# Altium footprint library LMZ36002RVQT.PcbLib: 1 footprints
Each footprint in its own frame and in the unit in brackets; x right, y up, seen from the top. Pads: shape width x height; smd on the part's side, far side on the other; paste and mask are expansions set on the pad; w line width, h text height; cw(c..) or ccw(c..) is an arc to the next point about the centre after c.
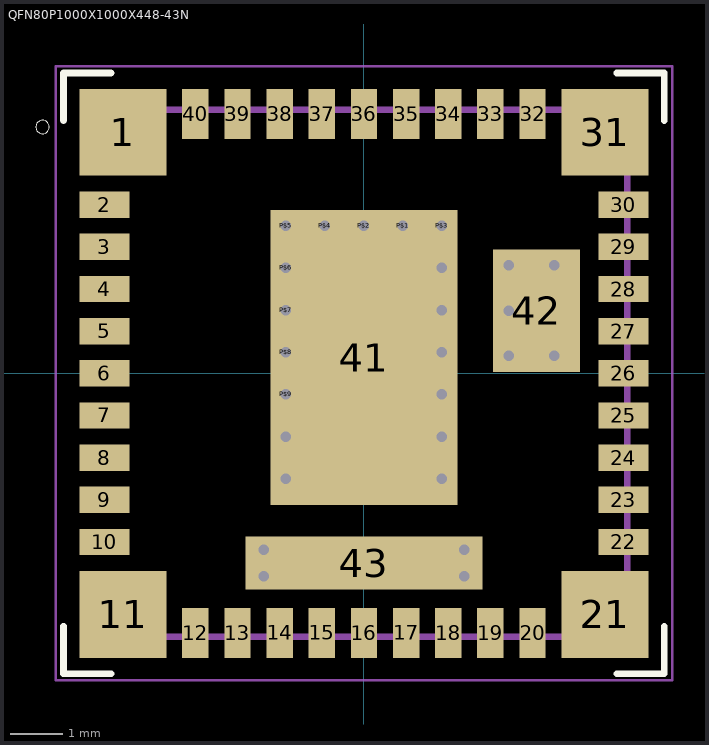
[diagram p0: the footprint, top view; thin cyan lines are the x and y axes]

## QFN80P1000X1000X448-43N [mm]
pads (69):
  rect 1.65x1.65 smd: 1(-4.575,4.575) 11(-4.575,-4.575) 21(4.575,-4.575) 31(4.575,4.575)
  rect 0.95x0.5 smd: 2(-4.925,3.2) 3(-4.925,2.4) 4(-4.925,1.6) 5(-4.925,0.8) 6(-4.925,0) 7(-4.925,-0.8) 8(-4.925,-1.6) 9(-4.925,-2.4) 10(-4.925,-3.2) 22(4.925,-3.2) 23(4.925,-2.4) 24(4.925,-1.6) 25(4.925,-0.8) 26(4.925,0) 27(4.925,0.8) 28(4.925,1.6) 29(4.925,2.4) 30(4.925,3.2)
  rect 0.5x0.95 smd: 12(-3.2,-4.925) 13(-2.4,-4.925) 14(-1.6,-4.925) 15(-0.8,-4.925) 16(0,-4.925) 17(0.8,-4.925) 18(1.6,-4.925) 19(2.4,-4.925) 20(3.2,-4.925) 32(3.2,4.925) 33(2.4,4.925) 34(1.6,4.925) 35(0.8,4.925) 36(0,4.925) 37(-0.8,4.925) 38(-1.6,4.925) 39(-2.4,4.925) 40(-3.2,4.925)
  rect 3.55x5.6 smd paste-4 mask+0: 41(0,0.3)
  rect 1.65x2.32 smd paste-2 mask+0: 42(3.275,1.187)
  rect 4.5x1 smd paste-3 mask+0: 43(0,-3.6)
  round 0.3 hole 0.2 mask+0: P$1(0.74,2.8) P$2(0,2.8) P$3(1.48,2.8) P$4(-0.74,2.8) P$5(-1.48,2.8) P$6(-1.48,2) P$7(-1.48,1.2) P$8(-1.48,0.4) P$9(-1.48,-0.4) P$10(-1.48,-1.2) P$11(-1.48,-2) P$12(1.48,2) P$13(1.48,1.2) P$14(1.48,0.4) P$15(1.48,-0.4) P$16(1.48,-1.2) P$17(1.48,-2) P$18(2.75,2.05) P$19(2.75,1.19) P$20(2.75,0.33) P$21(3.61,0.33) P$22(3.61,2.05) P$23(1.9,-3.35) P$24(1.9,-3.85) P$25(-1.9,-3.35) P$26(-1.9,-3.85)
Top Overlay:
  circle w0: c-6.1,4.675 r0.127
  lines w0.127: -5.7,-4.8 -5.7,-5.7 -4.8,-5.7 ; -5.7,4.8 -5.7,5.7 -4.8,5.7 ; 4.8,-5.7 5.7,-5.7 5.7,-4.8 ; 4.8,5.7 5.7,5.7 5.7,4.8
Mechanical 13:
  lines w0.127: -5,-5 5,-5 5,5 -5,5
Mechanical 15:
  lines w0.05: -5.85,-5.825 -5.85,5.825 5.85,5.825 5.85,-5.825 -5.85,-5.825
3D body "step_temp.STEP": height 4.4, standoff 0, extent -5,-5 5,5